# EAGLE library part LMP8601 (library TI)
LMP8601/LMP8601Q 60V Common Mode, Bidirectional Precision Current Sensing Amplifier Datasheet: http://www.ti.com/lit/ds/symlink/lmp8601.pdf Product page: http://www.ti.com/product/lmp8601 UPDATED 12/5/2012: Corrected SOIC8 pinout. Designs relying on this device before this revision will be incorrect and must be updated.
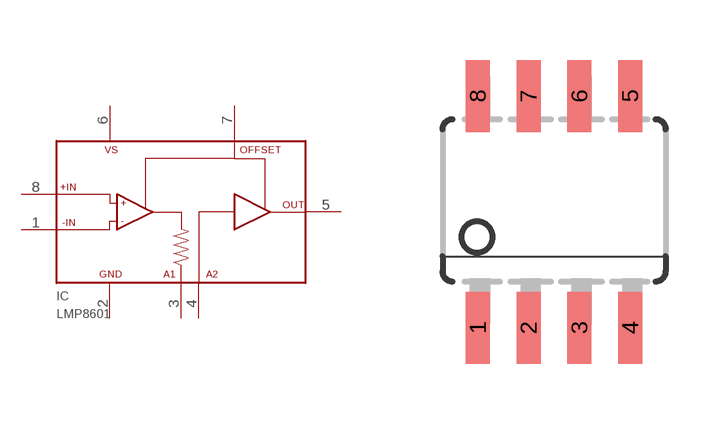
[diagram p19: symbol with the pads of SOIC8; footprint SOIC8]

Designator prefix IC

## LMP8601 (PARTNO: LMP8601MA/NOPB)  [SOIC8]
1  -IN  in
2  GND  pwr
3  A1
4  A2
5  OUT  out
6  VS  pwr
7  OFFSET
8  +IN  in

## Footprint SOIC8 (pad centres in mm)
SOIC-8/SO-8 This package is a bit wonky because it seems like different manufacturers make their devices in different widths? So the pads here are sized to be long enough to fit the SOIC-8 footprint here <http://glacier.lbl.gov/gtp/DOM/dataSheets/soic8_dim.pdf>, as well as the TI SO-8 footprint. edit 2013-12-27: not anymore, I shortened the pads -abk Be sure to check the width of your component before using this package!!!!
smd 0.6 x 1.8: 1 0.23,-1.9; 2 1.5,-1.9; 3 2.77,-1.9; 4 4.04,-1.9; 5 4.04,3.9; 6 2.77,3.9; 7 1.5,3.9; 8 0.23,3.9